# EAGLE library part P8X32A-M44 (library parallax_propeller)
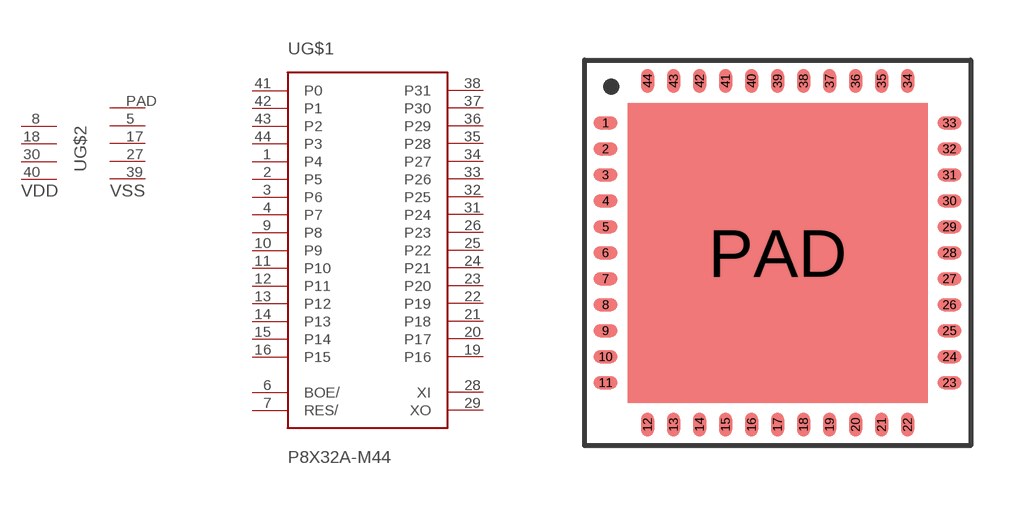
[diagram p1: symbol with the pads of P8X32A-M44; footprint P8X32A-M44]

Designator prefix -; gates G$1=P8X32A G$2=4VDD5VSS

## P8X32A-M44  [P8X32A-M44]
1  G$1:P4
2  G$1:P5
3  G$1:P6
4  G$1:P7
5  G$2:VSS  pwr
6  G$1:BOE/  in
7  G$1:RES/
8  G$2:VDD  pwr
9  G$1:P8
10  G$1:P9
11  G$1:P10
12  G$1:P11
13  G$1:P12
14  G$1:P13
15  G$1:P14
16  G$1:P15
17  G$2:VSS  pwr
18  G$2:VDD  pwr
19  G$1:P16
20  G$1:P17
21  G$1:P18
22  G$1:P19
23  G$1:P20
24  G$1:P21
25  G$1:P22
26  G$1:P23
27  G$2:VSS  pwr
28  G$1:XI  in
29  G$1:XO  out
30  G$2:VDD  pwr
31  G$1:P24
32  G$1:P25
33  G$1:P26
34  G$1:P27
35  G$1:P28
36  G$1:P29
37  G$1:P30
38  G$1:P31
39  G$2:VSS  pwr
40  G$2:VDD  pwr
41  G$1:P0
42  G$1:P1
43  G$1:P2
44  G$1:P3
PAD  G$2:VSS  pwr

## Footprint P8X32A-M44 (pad centres in mm)
smd 0.6 x 0.33: 1 -4.301,3.249; 2 -4.301,2.599; 3 -4.301,1.949; 4 -4.301,1.299; 5 -4.301,0.649; 6 -4.301,-0.001; 7 -4.301,-0.651; 8 -4.301,-1.301; 9 -4.301,-1.951; 10 -4.301,-2.601; 11 -4.301,-3.251; 23 4.3,-3.251; 24 4.3,-2.601; 25 4.3,-1.951; 26 4.3,-1.301; 27 4.3,-0.651; 28 4.3,-0.001; 29 4.3,0.649; 30 4.3,1.299; 31 4.3,1.949; 32 4.3,2.599; 33 4.3,3.249
smd 0.33 x 0.6: 12 -3.251,-4.301; 13 -2.6,-4.301; 14 -1.95,-4.301; 15 -1.3,-4.301; 16 -0.65,-4.301; 17 -0.001,-4.301; 18 0.649,-4.301; 19 1.3,-4.301; 20 1.95,-4.301; 21 2.599,-4.301; 22 3.249,-4.301; 34 3.249,4.299; 35 2.599,4.299; 36 1.95,4.299; 37 1.3,4.299; 38 0.649,4.299; 39 -0.001,4.299; 40 -0.65,4.299; 41 -1.3,4.299; 42 -1.95,4.299; 43 -2.6,4.299; 44 -3.251,4.299
smd 7.5 x 7.5: PAD 0,0